# Altium footprint library SignalCommunications.PCBLIB: 466 footprints (part 7 of 30)
Each footprint in its own frame and in the unit in brackets; x right, y up, seen from the top. Pads: shape width x height; smd on the part's side, far side on the other; paste and mask are expansions set on the pad; w line width, h text height; cw(c..) or ccw(c..) is an arc to the next point about the centre after c.
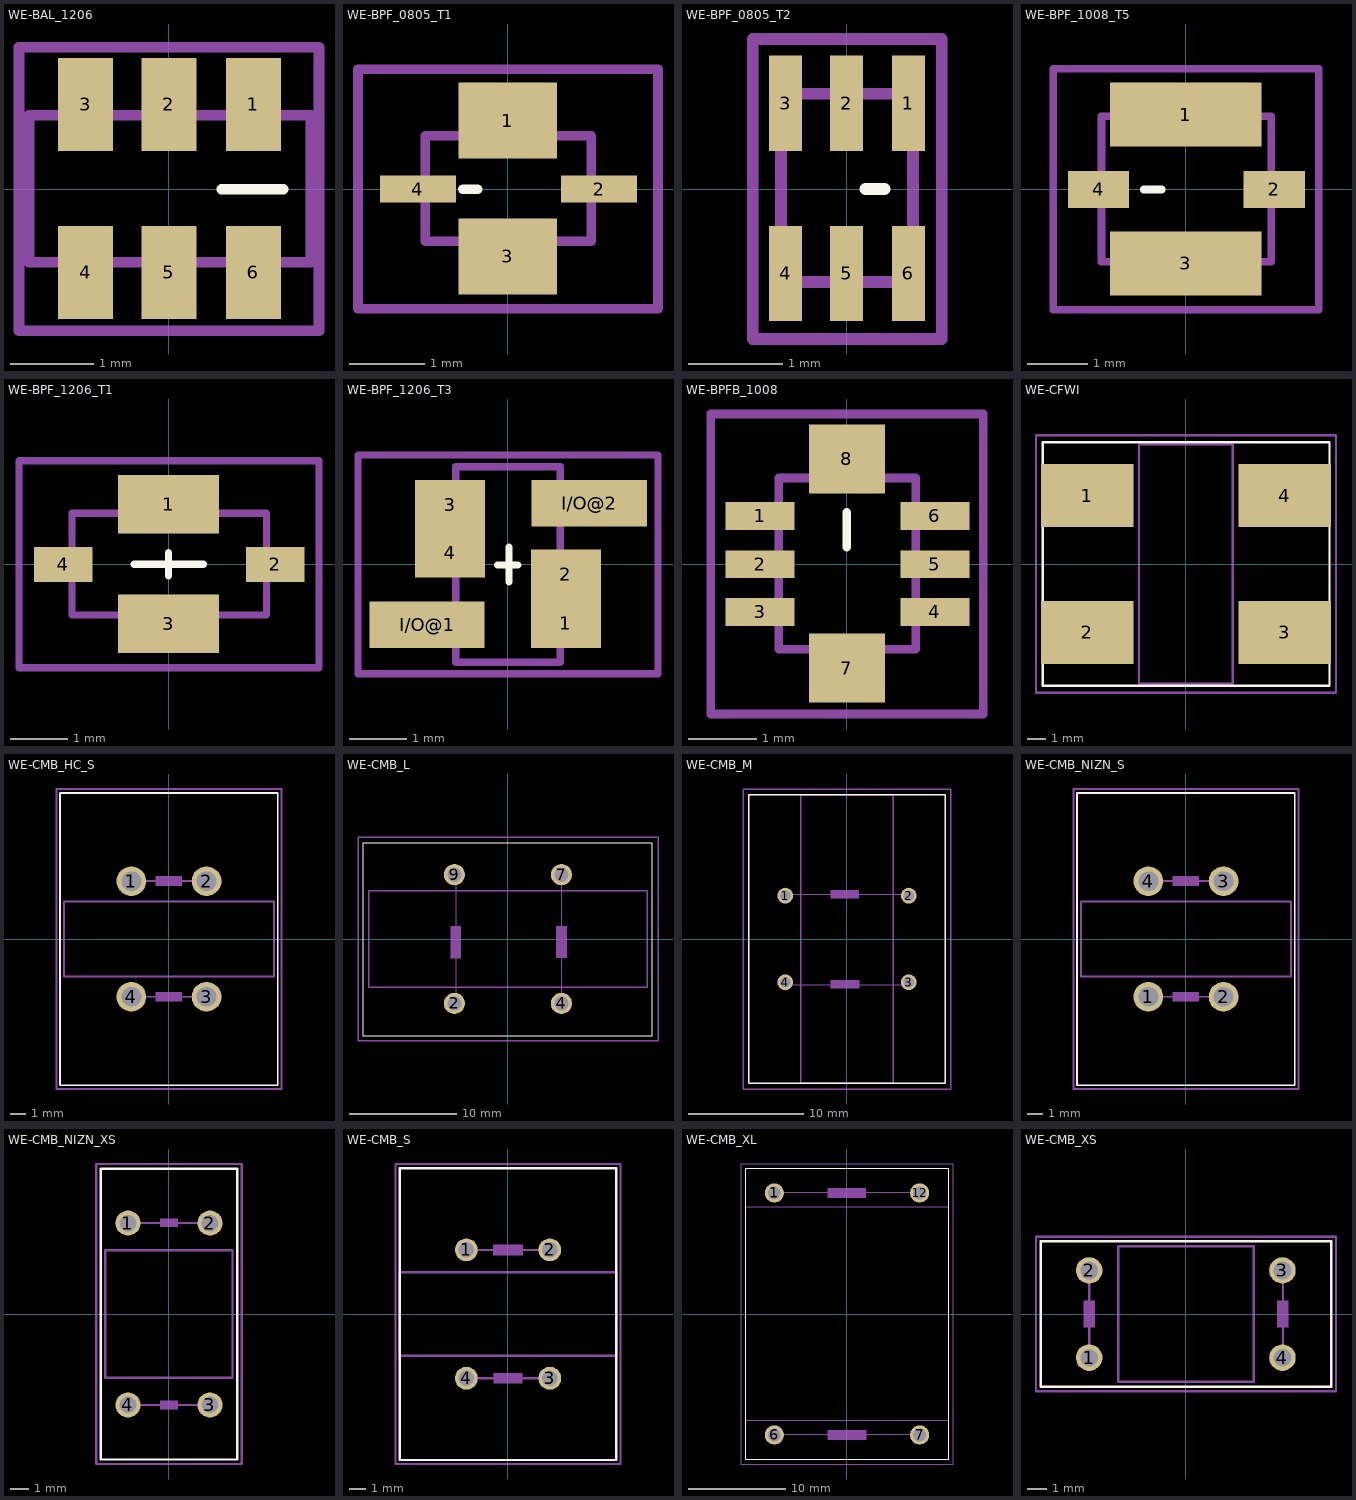
[diagram p6: the footprints below, top view; thin cyan lines are the x and y axes]

## WE-BAL_1206 [mil]
pads (6):
  rect 26x44 smd: 1(40,40) 2(0,40) 3(-39.37,40) 4(-39.37,-39.37) 5(0,-39.37) 6(40,-39.37)
Top Overlay:
  lines w5: 25,0 54,0
Mechanical 16:
  lines w5: -66.14,-34.65 67,-34.65 67,35 -66.14,35 -66.14,-34.65
Mechanical 27:
  lines w5: -70.87,-66.93 -70.87,67 71,67 71,-66.93 -70.87,-66.93

## WE-BPF_0805_T1 [mil]
pads (4):
  rect 52x40 smd: 1(0,36) 3(0,-35.43)
  rect 40x14 smd: 2(48,0) 4(-47.24,0)
Top Overlay:
  lines w5: -23.62,0 -15.75,0
Mechanical 16:
  lines w5: -43.31,-27.56 44,-27.56 44,28 -43.31,28 -43.31,-27.56
Mechanical 27:
  lines w5: -78.74,-62.99 -78.74,63 79,63 79,-62.99 -78.74,-62.99

## WE-BPF_0805_T2 [mil]
pads (6):
  rect 14x40 smd: 1(26,36) 2(0,36) 3(-25.59,36) 4(-25.59,-35.43) 5(0,-35.43) 6(26,-35.43)
Top Overlay:
  lines w5: 8,0 16,0
Mechanical 16:
  lines w5: -27.56,-39.37 -27.56,-38.98 ; -27.56,-38.98 -27.56,40 28,40 28,-38.98 -27.56,-38.98
Mechanical 27:
  lines w5: -39.37,-62.99 -39.37,63 40,63 40,-62.99 -39.37,-62.99

## WE-BPF_1008_T5 [mil]
pads (4):
  rect 99x42 smd: 1(0,49) 3(0,-48.43)
  rect 40x24 smd: 2(58,0) 4(-57.09,0)
Top Overlay:
  lines w5: -27.56,0 -15.75,0
Mechanical 16:
  lines w5: -55.12,-47.24 56,-47.24 56,48 -55.12,48 -55.12,-47.24
Mechanical 27:
  lines w5: -86.61,-78.74 -86.61,79 87,79 87,-78.74 -86.61,-78.74

## WE-BPF_1206_T1 [mil]
pads (4):
  rect 69x40 smd: 1(0,41) 3(0,-40.55)
  rect 40x24 smd: 2(73,0) 4(-72.05,0)
Top Overlay:
  lines w5: -23.62,0 24,0 ; 0,-7.87 0,8
Mechanical 16:
  lines w5: -66.14,-34.65 67,-34.65 67,35 -66.14,35 -66.14,-34.65
Mechanical 27:
  lines w5: -102.36,-70.87 -102.36,71 103,71 103,-70.87 -102.36,-70.87

## WE-BPF_1206_T3 [mil]
pads (6):
  rect 48x34 smd: 1(40,-40.16) 2(40,-6.69) 3(-39.37,41) 4(-39.37,8)
  rect 79x32 smd: I/O@1(-55.12,-41.34) I/O@2(56,42)
Top Overlay:
  lines w5: -6.69,-0.39 7,-0.39 ; 1,-11.81 1,12
Mechanical 16:
  lines w5: -35.43,-66.93 -35.43,67 36,67 36,-66.93 -35.43,-66.93
Mechanical 27:
  lines w5: -102.36,-74.8 -102.36,75 103,75 103,-74.8 -102.36,-74.8

## WE-BPFB_1008 [mil]
pads (8):
  rect 40x16 smd: 1(-50.2,28) 2(-50.2,0) 3(-50.2,-27.56) 4(51,-27.56) 5(51,0) 6(51,28)
  rect 44x40 smd: 7(0,-60.04) 8(0,61)
Top Overlay:
  lines w5: 0,10 0,30
Mechanical 16:
  lines w5: -39.37,-49.21 40,-49.21 40,50 -39.37,50 -39.37,-49.21
Mechanical 27:
  lines w5: -78.74,-86.61 -78.74,87 79,87 79,-86.61 -78.74,-86.61

## WE-CFWI [mil]
pads (4):
  rect 197x134 smd: 1(-210.63,146) 2(-210.63,-145.67) 3(211,-145.67) 4(211,146)
Top Overlay:
  lines w5: -305.12,-259.84 306,-259.84 306,260 -305.12,260 -305.12,-259.84
Mechanical 10:
  lines w5: -100,-255 100,-255 100,255 -100,255 -100,-255
Mechanical 27:
  lines w5: -319.84,-274.84 320,-274.84 320,275 -319.84,275 -319.84,-274.84

## WE-CMB_HC_S [mil]
pads (4):
  round 78 hole 52: 1(-98.43,152) 2(99,152) 3(99,-151.57) 4(-98.43,-151.57)
Top Overlay:
  lines w5: -285.43,-383.86 286,-383.86 286,384 -285.43,384 -285.43,-383.86
Mechanical 10:
  lines w5: -275.59,-98.43 -275.59,99 276,99 276,-98.43 -275.59,-98.43
Mechanical 16:
  region: 34.65,-164.57 34.65,-138.58 -34.64,-138.58 -34.64,-164.57
  region: 35,139 35,165 -35,165 -35,139
  lines w5: -98.43,-151.57 99,-151.57 ; -98.43,152 99,152
Mechanical 27:
  lines w5: -295.28,-393.7 -295.28,394 296,394 296,-393.7 -295.28,-393.7

## WE-CMB_L [mil]
pads (4):
  round 78 hole 52: 2(-196.85,-236.22) 4(197,-236.22) 7(197,237) 9(-196.85,237)
Top Overlay:
  lines w3: -533.89,-355.77 -533.89,353 530,353 530,-355.77 -533.89,-355.77
Mechanical 10:
  lines w5: -511.81,-177.17 -511.81,178 512,178 512,-177.17 -511.81,-177.17
Mechanical 16:
  rectangle: -211.05,-70.33 -171.68,48
  rectangle: 177,-70.14 217,48
  lines w3: -191.37,-208.13 -191.37,206 ; 197,-207.93 197,206
Mechanical 27:
  lines w5: -551.18,-374.02 -551.18,375 552,375 552,-374.02 -551.18,-374.02

## WE-CMB_M [mil]
pads (4):
  round 54 hole 36: 1(-210.63,148) 2(211,148) 3(211,-147.64) 4(-210.63,-147.64)
Top Overlay:
  lines w5: -334.65,-492.13 -334.65,493 335,493 335,-492.13 -334.65,-492.13
Mechanical 10:
  lines w5: -157.48,-492.13 -157.48,493 158,493 158,-492.13 -157.48,-492.13
Mechanical 16:
  region: 42.09,138.09 42.09,167.91 -55.91,167.91 -55.91,138.09
  region: 42.3,-169.24 42.3,-139.42 -56.13,-139.42 -56.13,-169.24
  lines w3: -208.44,-155.32 215,-155.32 ; -208.44,152 215,152
Mechanical 27:
  lines w5: -354.33,-511.81 -354.33,512 355,512 355,-511.81 -354.33,-511.81

## WE-CMB_NIZN_S [mil]
pads (4):
  round 78 hole 52: 1(-98.43,-151.57) 2(99,-151.57) 3(99,152) 4(-98.43,152)
Top Overlay:
  lines w5: -285.43,-383.86 286,-383.86 286,384 -285.43,384 -285.43,-383.86
Mechanical 10:
  lines w5: -275.59,-98.43 -275.59,99 276,99 276,-98.43 -275.59,-98.43
Mechanical 16:
  region: 34.65,-164.57 34.65,-138.58 -34.64,-138.58 -34.64,-164.57
  region: 35,139 35,165 -35,165 -35,139
  lines w5: -98.43,-151.57 99,-151.57 ; -98.43,152 99,152
Mechanical 27:
  lines w5: -295.28,-393.7 -295.28,394 296,394 296,-393.7 -295.28,-393.7

## WE-CMB_NIZN_XS [mil]
pads (4):
  round 54 hole 36: 1(-88.58,197) 2(89,197) 3(89,-196.85) 4(-88.58,-196.85)
Top Overlay:
  lines w5: -147.64,-314.96 148,-314.96 148,315 -147.64,315 -147.64,-314.96
Mechanical 10:
  lines w5: -137.8,-137.8 -137.8,138 138,138 138,-137.8 -137.8,-137.8
Mechanical 16:
  rectangle: -19.68,188 20,207
  rectangle: -19.68,-206.69 20,-187
  lines w5: -78.74,-196.85 79,-196.85 ; -78.74,197 79,197
Mechanical 27:
  lines w5: -157.48,-324.8 -157.48,325 158,325 158,-324.8 -157.48,-324.8

## WE-CMB_S [mil]
pads (4):
  round 54 hole 36: 1(-98.43,152) 2(99,152) 3(99,-151.57) 4(-98.43,-151.57)
Top Overlay:
  lines w5: -255.91,-344.49 256,-344.49 256,345 -255.91,345 -255.91,-344.49
Mechanical 10:
  lines w5: -255.91,-98.43 -255.91,99 256,99 256,-98.43 -255.91,-98.43
Mechanical 16:
  region: 34.65,-164.57 34.65,-138.58 -34.64,-138.58 -34.64,-164.57
  region: 35,139 35,165 -35,165 -35,139
  lines w5: -98.43,-151.57 99,-151.57 ; -98.43,152 99,152
Mechanical 27:
  lines w5: -265.75,-354.33 -265.75,355 266,355 266,-354.33 -265.75,-354.33

## WE-CMB_XL [mil]
pads (4):
  round 78 hole 52: 1(-295.28,493) 6(-295.28,-492.13) 7(296,-492.13) 12(296,493)
Top Overlay:
  lines w3: -413.39,-590.55 -413.39,591 414,591 414,-590.55 -413.39,-590.55
Mechanical 10:
  lines w5: -413.39,-433.07 -413.39,434 414,434 414,-433.07 -413.39,-433.07
Mechanical 16:
  region: -78.34,512.34 -78.34,472.66 78.66,472.66 78.66,512.34
  region: -78.58,-472.28 -78.58,-511.97 78.9,-511.97 78.9,-472.28
  lines w3: -295.28,-492.13 296,-492.13 ; -295.28,493 296,493
Mechanical 27:
  lines w5: -433.07,-610.24 -433.07,611 434,611 434,-610.24 -433.07,-610.24

## WE-CMB_XS [mil]
pads (4):
  round 54 hole 36: 1(-196.85,-88.58) 2(-196.85,89) 3(197,89) 4(197,-88.58)
Top Overlay:
  lines w5: -295.28,-147.64 296,-147.64 296,148 -295.28,148 -295.28,-147.64
Mechanical 10:
  lines w5: -137.8,-137.8 -137.8,138 138,138 138,-137.8 -137.8,-137.8
Mechanical 16:
  rectangle: -208.66,-27.56 -185.04,28
  rectangle: 186,-27.56 209,28
  lines w5: -196.85,-88.58 -196.85,89 ; 198,89 198,-88.98 199,-88.98
Mechanical 27:
  lines w5: -305.12,-157.48 -305.12,158 306,158 306,-157.48 -305.12,-157.48